# EAGLE library part BREADBOARD (library Lowduino)
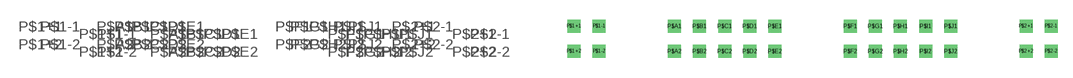
[diagram p0: symbol with the pads of BREADBOARD; footprint BREADBOARD]

Designator prefix -

## BREADBOARD  [BREADBOARD]
P$1+1  P$1+1  pwr
P$1+2  P$1+2  pwr
P$1-1  P$1-1  pas
P$1-2  P$1-2  pas
P$2+1  P$2+1  pwr
P$2+2  P$2+2  pwr
P$2-1  P$2-1  pas
P$2-2  P$2-2  pas
P$A1  P$A1
P$A2  P$A2
P$B1  P$B1
P$B2  P$B2
P$C1  P$C1
P$C2  P$C2
P$D1  P$D1
P$D2  P$D2
P$E1  P$E1
P$E2  P$E2
P$F1  P$F1
P$F2  P$F2
P$G1  P$G1
P$G2  P$G2
P$H1  P$H1
P$H2  P$H2
P$I1  P$I1
P$I2  P$I2
P$J1  P$J1
P$J2  P$J2

## Footprint BREADBOARD (pad centres in mm)
drill 0.8 square: P$1+1 -24.13,0; P$1+2 -24.13,-2.54; P$1-1 -21.59,0; P$1-2 -21.59,-2.54; P$2+1 21.59,0; P$2+2 21.59,-2.54; P$2-1 24.13,0; P$2-2 24.13,-2.54; P$A1 -13.97,0; P$A2 -13.97,-2.54; P$B1 -11.43,0; P$B2 -11.43,-2.54; P$C1 -8.89,0; P$C2 -8.89,-2.54; P$D1 -6.35,0; P$D2 -6.35,-2.54; P$E1 -3.81,0; P$E2 -3.81,-2.54; P$F1 3.81,0; P$F2 3.81,-2.54; P$G1 6.35,0; P$G2 6.35,-2.54; P$H1 8.89,0; P$H2 8.89,-2.54; P$I1 11.43,0; P$I2 11.43,-2.54; P$J1 13.97,0; P$J2 13.97,-2.54